# Altium schematic symbol library IEEE-802.15.4.SchLib: 39 symbols
Pins are listed as number, name and electrical type; pins without a type are passive.

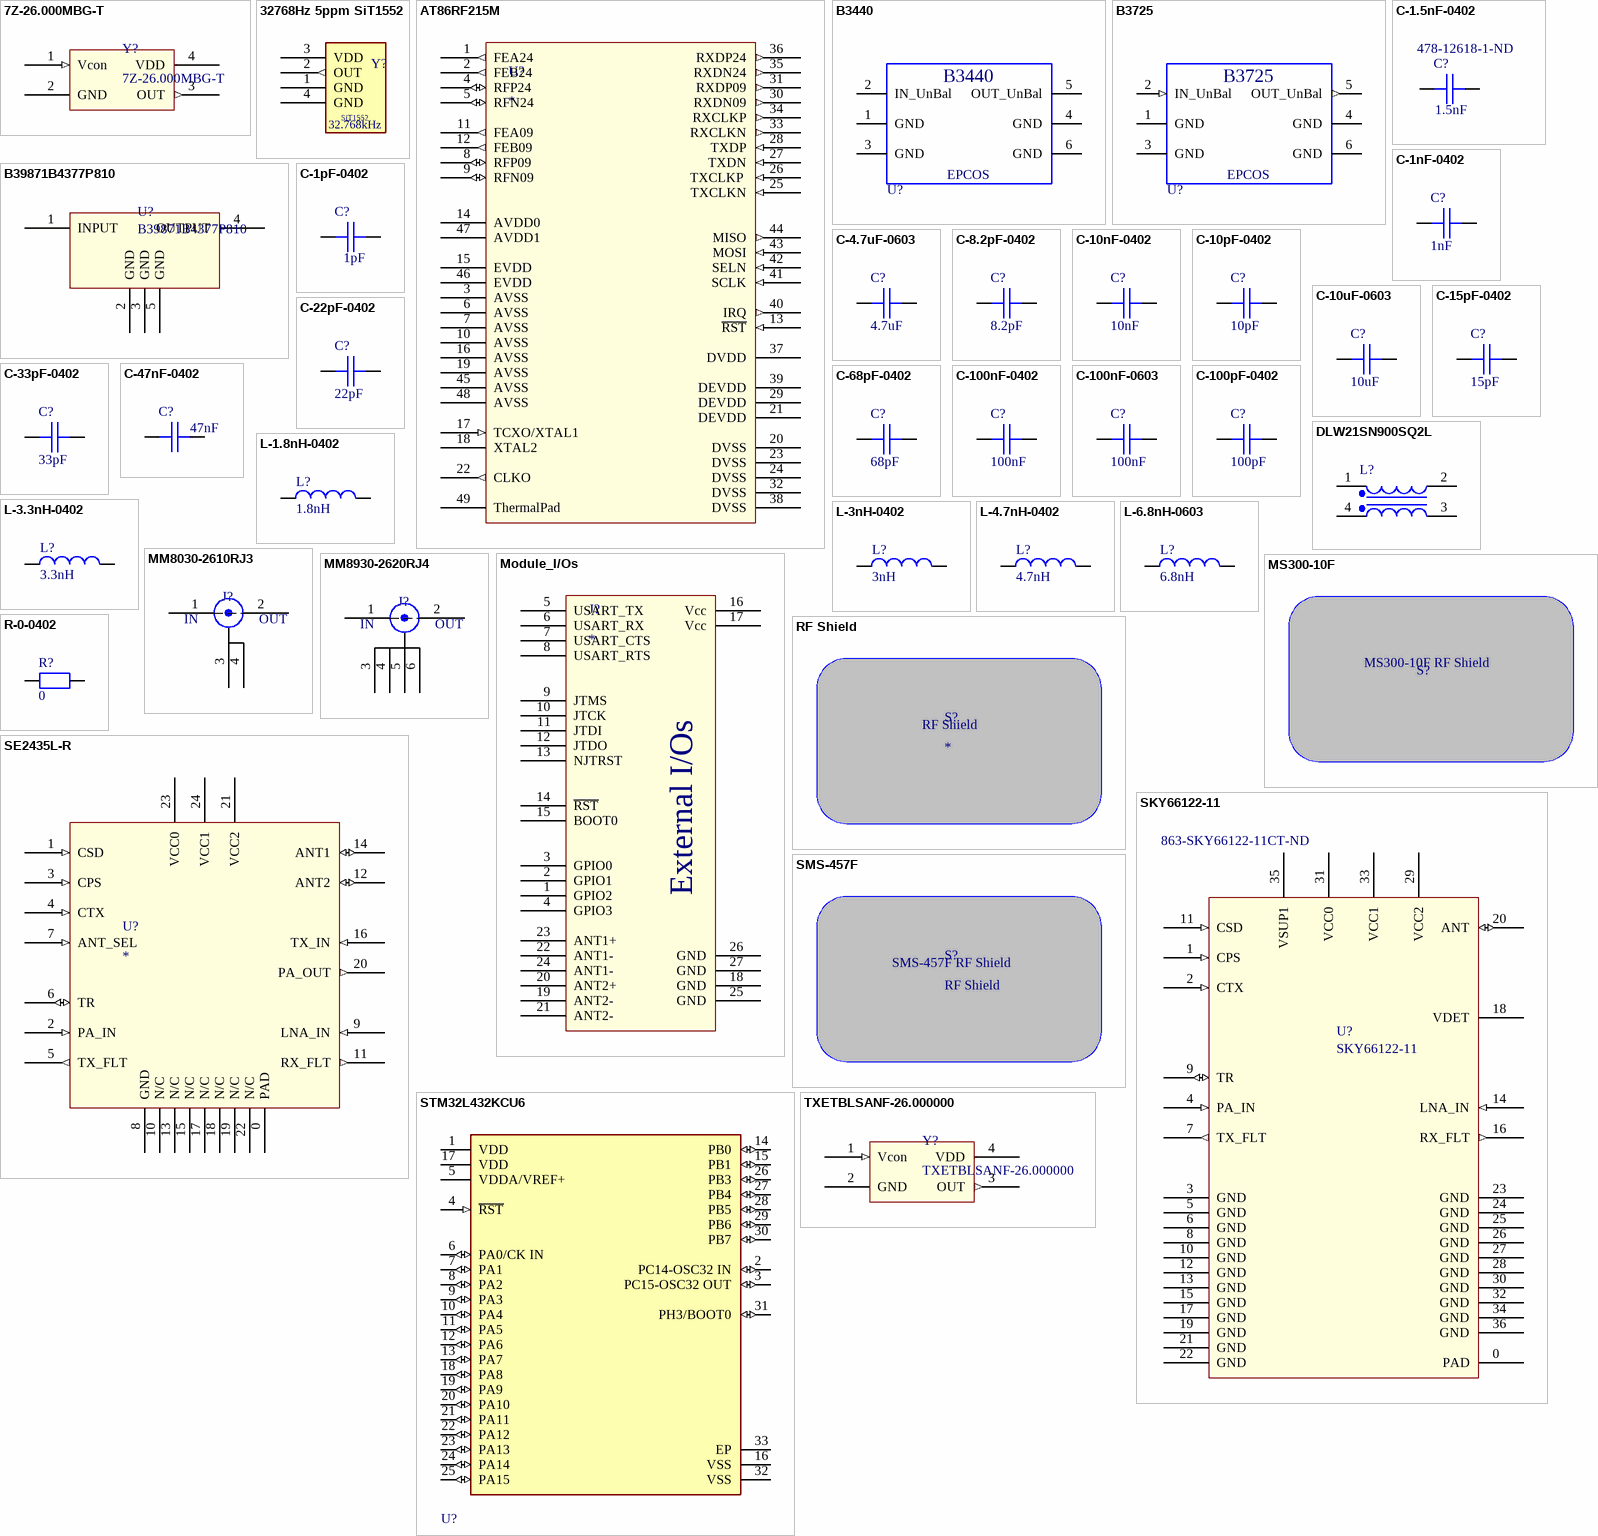
[diagram p0: symbols 7Z-26.000MBG-T to TXETBLSANF-26.000000]

## 7Z-26.000MBG-T
designator Y?
XTAL OSC TCXO 26.0000MHZ SNWV; Frequency Stability: 1ppm; Frequency: 26MHz; Max Supply Current: 2mA; RoHS: Yes; Mount: Surface Mount; Case/Package: SMD/SMT; Min Operating Temperature: -40°C; Max Operating Temperature: 85°C; Packaging: Tape and Reel; Length: 0.126inch; Height: 0.039inch; Width: 0.098inch; ComponentLink1URL: http://www.taitien.com/wp-content/uploads/2015/12/XO-0076_TX.pdf?src-supplier=Digi-Key; ComponentLink1Description: http://www.taitien.com/wp-content/uploads/2015/12/XO-0076_TX.pdf?src-supplier=Digi-Key; Supplier 1: Digi-Key; Supplier Part Number 1: 887-1620-1-ND
footprint TCXO
pins: 1 Vcon (in) "Vcon:VC-TCXO GND / NC:TCX", 2 GND (power), 3 OUT (out), 4 VDD (power)

## 32768Hz 5ppm SiT1552
designator Y?, comment 32k TCXO 5ppm SiT1552  (value not drawn)
Supplier 1: Digi-Key; Supplier Part Number 1: 1473-1241-1-ND
footprint 4-UFBGA (SiT1552 TCXO CSPBGA)
pins: 1 GND (power), 2 OUT (out), 3 VDD (power), 4 GND (power)
text: SiT1552; 32.768kHz

## AT86RF215M
designator U?
IC RF TXRX 802.15.4/ISM 48-VFQFN; Supplier 1: Digi-Key; Supplier Part Number 1: AT86RF215M-ZU-ND
footprint QFN50P700X700X90-49N-D
pins: 1 FEA24 (out) "RF frontend control; digital output for the 2.4GHz transceiver", 2 FEB24 (out) "RF frontend control; digital output for the 2.4GHz transceiver", 3 AVSS (power) "Analog ground (RF)", 4 RFP24 (io) "Differential RF input/output 2.4GHz (positive)", 5 RFN24 (io) "Differential RF input/output 2.4GHz (negative)", 6 AVSS (power) "Analog ground (RF)", 7 AVSS (power) "Analog ground (RF)", 8 RFP09 (io) "Differential RF input/output for sub-1GHz transceiver (positive)", 9 RFN09 (io) "Differential RF input/output for sub-1GHz transceiver (negative)", 10 AVSS (power) "Analog ground (RF)", 11 FEA09 (out) "RF frontend control; digital output for the sub-1GHz transceiver", 12 FEB09 (out) "RF frontend control; digital output for the sub-1GHz transceiver", 13 ~{RST} (in) "Reset input (active low)", 14 AVDD0 (power) "Internal regulated analog 1.8V supply output voltage (internally generated) for analog circuitry of the sub-1GHz transceiver", 15 EVDD (power) "External analog supply voltage (VDD); 3.0V typical", 16 AVSS (power) "Analog ground", 17 TCXO/XTAL1 (in) "TCXO or crystal oscillator (26MHz) input", 18 XTAL2 "Crystal oscillator", 19 AVSS (power) "Analog ground", 20 DVSS (power) "Digital ground", 21 DEVDD (power) "External digital supply voltage (VDD); 3.0V typical", 22 CLKO (out) "Clock output", 23 DVSS (power) "Digital ground", 24 DVSS (power) "Digital ground", 25 TXCLKN (in) "Differential TX I/Q clock interface input (negative)", 26 TXCLKP  (in) "Differential TX I/Q clock interface input (positive)", 27 TXDN (in) "Differential TX I/Q data interface input (negative)", 28 TXDP (in) "Differential TX I/Q data interface input (positive)", 29 DEVDD (power) "External digital supply voltage (VDD); 3.0V typical", 30 RXDN09 (out) "Differential RX I/Q data interface output sub-1GHz transceiver (negative)", 31 RXDP09 (out) "Differential RX I/Q data interface output sub-1GHz transceiver (positive)", 32 DVSS (power) "Digital ground", 33 RXCLKN (out) "Differential RX I/Q clock interface output (negative)", 34 RXCLKP (out) "Differential RX I/Q clock interface output (positive)", 35 RXDN24 (out) "Differential RX I/Q data interface output 2.4GHz transceiver (negative)", 36 RXDP24 (out) "Differential RX I/Q data interface output 2.4GHz transceiver (positive)", 37 DVDD (power) "Internal regulated supply output voltage (internally generated) for digital circuitry", 38 DVSS (power) "Digital ground", 39 DEVDD (power) "External digital supply voltage (VDD); 3.0V typical", 40 IRQ (out) "Interrupt output", 41 SCLK (in) "SPI interface clock input", 42 SELN (in) "SPI select input (active low)", 43 MOSI (in) "SPI data input", 44 MISO (out) "SPI data output", 45 AVSS (power) "Analog ground", 46 EVDD (power) "External analog supply voltage (VDD); 3.0V typical", 47 AVDD1 (power) "Internal regulated analog 1.8V supply output voltage (internally generated) for analog circuitry for the 2.4GHz transceiver", 48 AVSS (power) "Analog ground", 49 ThermalPad

## B3440
designator U?  (value not drawn)
SAW filter; PartNumber: BGA725L6; Manufacturer: Infineon; Gain (typ): 20 dB; F (typ): 0.65 dB; I (typ): 3.6 mA; Frequency (f): 1550 - 1615 MHz; Green: yes; P-1dB (in): -16; ComponentLink3URL: http://www.infineon.com/dgdl/TSLP-6-2-Package-Overview.pdf?folderId=db3a304331f858f40131ffb9669c4315&fileId=db3a3043338c8ac80133b1ca9c866256; ComponentLink3Description: Package Specification; ComponentLink1Description: Manufacturer URL; ComponentLink2URL: http://www.infineon.com/dgdl/BGA725L6_V2+0.pdf?folderId=db3a30431f848401011fcbf2ab4c04c4&fileId=db3a30433784a0400137ef9a4d341f23; DatasheetVersion: Rev. 2.0; Mounting Technology: Surface Mount; PackageDescription: 6-Pin Thin Small Leadless Package, 0.7 x 1.1 mm Body, 0.4 mm Pitch; ComponentLink1URL: http://www.infineon.com/; PackageReference: TSLP-6-2; ComponentLink2Description: Datasheet; Supplier 1: Mouser; Supplier Part Number 1: 871-B39871B3440U410
footprint EPCOS-DCC6C
pins: 1 GND (power) "DC supply", 2 IN_UnBal (power) "General ground", 3 GND (power) "DC supply", 4 GND (power) "DC supply", 5 OUT_UnBal (power) "LNA RF ground", 6 GND (power) "DC supply"
text: EPCOS

## B3725
designator U?  (value not drawn)
SAW filter; PartNumber: BGA725L6; Manufacturer: Infineon; Gain (typ): 20 dB; F (typ): 0.65 dB; I (typ): 3.6 mA; Frequency (f): 1550 - 1615 MHz; Green: yes; P-1dB (in): -16; ComponentLink3URL: http://www.infineon.com/dgdl/TSLP-6-2-Package-Overview.pdf?folderId=db3a304331f858f40131ffb9669c4315&fileId=db3a3043338c8ac80133b1ca9c866256; ComponentLink3Description: Package Specification; ComponentLink1Description: Manufacturer URL; ComponentLink2URL: http://www.infineon.com/dgdl/BGA725L6_V2+0.pdf?folderId=db3a30431f848401011fcbf2ab4c04c4&fileId=db3a30433784a0400137ef9a4d341f23; DatasheetVersion: Rev. 2.0; Mounting Technology: Surface Mount; PackageDescription: 6-Pin Thin Small Leadless Package, 0.7 x 1.1 mm Body, 0.4 mm Pitch; ComponentLink1URL: http://www.infineon.com/; PackageReference: TSLP-6-2; ComponentLink2Description: Datasheet; Supplier 1: Mouser; Supplier Part Number 1: 871-B39871B3725U410
footprint EPCOS-DCC6C
footprint EPCOS-DCC6C
pins: 1 GND (power) "DC supply", 2 IN_UnBal (in) "General ground", 3 GND (power) "DC supply", 4 GND (power) "DC supply", 5 OUT_UnBal (out) "LNA RF ground", 6 GND (power) "DC supply"
text: EPCOS

## B39871B4377P810
designator U?
Supplier 1: Mouser; Supplier Part Number 1: 871-B39871B4377P810
footprint B39871B4377P810
pins: 1 INPUT, 2 GND, 3 GND, 4 OUTPUT, 5 GND

## C-1.5nF-0402
designator C?, comment value 1.5nF  Supplier Part Number 1: 478-12618-1-ND  (hidden comment: C-1nF-0402)
Supplier 1: Digi-Key
simulation model CAP
footprint SM/C_0402
pins: 1, 2
1 alternate drawing of the same symbol

## C-1nF-0402
designator C?  value 1nF  (hidden comment: C-1nF-0402)
Voltage: 50V; Fabricant_Ref: GRM1555C1H102FA01D; Fabricant: Murata; Tolerance: 1%; Technologie: NPO; ESR: *; IRMS: *; Supplier 1: Digi-Key; Supplier Part Number 1: 490-6189-1-ND; Supplier 2: Mouser; Supplier Part Number 2: 81-GRM1555C1H102FA1D; Supplier 1b: DigiReel; Supplier Part Number 1b: 490-6189-6-ND
simulation model CAP
footprint SM/C_0402
pins: 1, 2
1 alternate drawing of the same symbol

## C-1pF-0402
designator C?  value 1pF  (hidden comment: C-1pF-0402)
Supplier 1: Digi-Key; Supplier Part Number 1: 1276-1595-1-ND
simulation model CAP
footprint SM/C_0402
pins: 1, 2
1 alternate drawing of the same symbol

## C-4.7uF-0603
designator C?  value 4.7uF  (hidden comment: C-4.7uF-0603)
Voltage: 6.3V; Fabricant_Ref: GRM188R60J475KE19D; Fabricant: Murata; Tolerance: 10%; Technologie: X5R; ESR: *; IRMS: *; Supplier Part Number 1b: 490-3297-6-ND; Supplier 1b: DigiReel; Supplier 1: Digi-Key; Supplier Part Number 1: 490-7203-1-ND
simulation model CAP
footprint SM/C_0603
pins: 1, 2
1 alternate drawing of the same symbol

## C-8.2pF-0402
designator C?  value 8.2pF  (hidden comment: C-8.2pF-0402)
Voltage: 6.3V; Fabricant_Ref: GRM188R60J475KE19D; Fabricant: Murata; Tolerance: 10%; Technologie: X5R; ESR: *; IRMS: *; Supplier Part Number 1b: 490-3297-6-ND; Supplier 1b: DigiReel; Supplier 1: Digi-Key; Supplier Part Number 1: 490-11240-1-ND
simulation model CAP
footprint SM/C_0402
pins: 1, 2
1 alternate drawing of the same symbol

## C-10nF-0402
designator C?  value 10nF  (hidden comment: C-10nF-0402)
Voltage: 50V; Fabricant_Ref: GRM155R71H103KA88J; Fabricant: Murata; Tolerance: 10%; Technologie: X7R; ESR: *; IRMS: *; Supplier 1: Digi-Key; Supplier Part Number 1: 490-4762-1-ND; Supplier 2: Mouser; Supplier Part Number 2: 81-GCM155R71H103KA5D
simulation model CAP
footprint SM/C_0402
pins: 1, 2
1 alternate drawing of the same symbol

## C-10pF-0402
designator C?  value 10pF  (hidden comment: C-10pF-0402)
Voltage: 6.3V; Fabricant_Ref: GRM188R60J475KE19D; Fabricant: Murata; Tolerance: 10%; Technologie: X5R; ESR: *; IRMS: *; Supplier Part Number 1b: 490-3297-6-ND; Supplier 1b: DigiReel; Supplier 1: Digi-Key; Supplier Part Number 1: 490-6186-1-ND
simulation model CAP
footprint SM/C_0402
pins: 1, 2
1 alternate drawing of the same symbol

## C-10uF-0603
designator C?  value 10uF  (hidden comment: C-10uF-0603)
Voltage: 6.3V; Fabricant_Ref: C1608X5R0J106M080AB; Fabricant: TDK; Tolerance: 20%; Technologie: X5R; ESR: *; IRMS: *; Supplier 1: Digi-Key; Supplier Part Number 1: 445-4112-1-ND; Supplier 2: Mouser; Supplier Part Number 2: 810-C1608X5R0J106M; Supplier 1b: DigiReel; Supplier Part Number 1b: 445-4112-6-ND
simulation model CAP
footprint SM/C_0603
pins: 1, 2
1 alternate drawing of the same symbol

## C-15pF-0402
designator C?  value 15pF  (hidden comment: C-15pF-0402)
Voltage: 6.3V; Fabricant_Ref: GRM188R60J475KE19D; Fabricant: Murata; Tolerance: 10%; Technologie: X5R; ESR: *; IRMS: *; Supplier Part Number 1b: 490-3297-6-ND; Supplier 1b: DigiReel; Supplier 1: Digi-Key; Supplier Part Number 1: 490-11191-1-ND
simulation model CAP
footprint SM/C_0402
pins: 1, 2
1 alternate drawing of the same symbol

## C-22pF-0402
designator C?  value 22pF  (hidden comment: C-22pF-0402)
Voltage: 50V; Fabricant_Ref: GRM1555C1H220FA01D; Fabricant: Murata; Tolerance: 1%; Technologie: NPO; ESR: *; IRMS: *; Supplier 1: Digi-Key; Supplier Part Number 1: 490-8589-1-ND; Supplier 2: Mouser; Supplier Part Number 2: 81-GRM1555C1H220FA1D
simulation model CAP
footprint SM/C_0402
pins: 1, 2
1 alternate drawing of the same symbol

## C-33pF-0402
designator C?  value 33pF  (hidden comment: C-33pF-0402)
Voltage: 50V; Fabricant_Ref: C1005C0G1H330J050BA; Fabricant: TDK; Tolerance: 5%; Technologie: NPO; ESR: *; IRMS: *; Supplier 1: Digi-Key; Supplier Part Number 1: 445-1241-1-ND; Supplier 1b: DigiReel; Supplier 2: Mouser; Supplier Part Number 1b: 445-1241-6-ND; Supplier Part Number 2: 810-C1005C0G1H330J
simulation model CAP
footprint SM/C_0402
pins: 1, 2
1 alternate drawing of the same symbol

## C-47nF-0402
designator C?  value 47nF  (hidden comment: C-47nF-0402)
Voltage: 25V; Fabricant_Ref: GCM155R71E473KA55D; Fabricant: Murata; Tolerance: 10%; Technologie: X7R; ESR: *; IRMS: *; Supplier 1: Digi-Key; Supplier Part Number 1: 490-4760-1-ND; Supplier 2: Mouser; Supplier Part Number 2: 81-GCM155R71E473KA5D; Supplier 1b: DigiReel; Supplier Part Number 1b: 490-4760-6-ND
simulation model CAP
footprint SM/C_0402
pins: 1, 2
1 alternate drawing of the same symbol

## C-68pF-0402
designator C?  value 68pF  (hidden comment: C-68pF-0402)
Voltage: 50V; Fabricant_Ref: C1005C0G1H330J050BA; Fabricant: TDK; Tolerance: 5%; Technologie: NPO; ESR: *; IRMS: *; Supplier 1b: DigiReel; Supplier Part Number 1b: 445-1241-6-ND; Supplier 1: Digi-Key; Supplier Part Number 1: 478-1080-1-ND
simulation model CAP
footprint SM/C_0402
pins: 1, 2
1 alternate drawing of the same symbol

## C-100nF-0402
designator C?  value 100nF  (hidden comment: C-100nF-0402)
Voltage: 25V; Fabricant_Ref: GRM155R71H103KA88J; Fabricant: Murata; Tolerance: 10%; Technologie: X7R; ESR: *; IRMS: *; Supplier 1: Digi-Key; Supplier Part Number 1: 1276-6720-1-ND; Supplier 2: Mouser; Supplier Part Number 2: 710-885012205037
simulation model CAP
footprint SM/C_0402
pins: 1, 2
1 alternate drawing of the same symbol

## C-100nF-0603
designator C?  value 100nF  (hidden comment: C-100nF-0603)
Voltage: 25V; Fabricant_Ref: C1608X7R1E104K080AA; Fabricant: TDK; Tolerance: 10%; Technologie: X7R; ESR: *; IRMS: *; Supplier 1: Digi-Key; Supplier Part Number 1: 445-1316-1-ND; Supplier 1b: DigiReel; Supplier 2: Mouser; Supplier Part Number 1b: 445-1316-6-ND; Supplier Part Number 2: 810-C1608X7R1E104K
simulation model CAP
footprint SM/C_0603
pins: 1, 2
1 alternate drawing of the same symbol

## C-100pF-0402
designator C?  value 100pF  (hidden comment: C-100pF-0402)
Voltage: 50V; Fabricant_Ref: GRM1555C1H101FA01J; Fabricant: Murata; Tolerance: 1%; Technologie: NPO; ESR: *; IRMS: *; Supplier 1: Digi-Key; Supplier Part Number 1: 490-7753-1-ND; Supplier 2: Mouser; Supplier Part Number 2: 81-GRM1555C1H101FA1J
simulation model CAP
footprint SM/C_0402
pins: 1, 2
1 alternate drawing of the same symbol

## DLW21SN900SQ2L
designator L?
Chip Common Mode Choke Coil, 90 Ohm, 330 mA, -40 to 85 degC, 4-Pin SMD, RoHS, Tape and Reel; Manufacturer: Murata; DC Resistance-Max: 0.41O; Impedance: 90O; Rated Voltage: 50V; Rated Current: 280mA; Manufacturer URL: http://www.murata.com/; Case Size/Dimension: 0805; Datasheet URL: http://www.murata.com/zh-cn/products/productdata/8796757917726/EFLC0003.pdf?1441769419000; Datasheet Version: Aug-14; Supplier 1: Digi-Key; Supplier Part Number 1: 490-5137-1-ND
footprint MURA-DLW21SN900SQ2L-4_V (SMD, 4-Leads, Body 2.2x1.4mm)
pins: 1, 2, 3, 4

## L-1.8nH-0402
designator L?  value 1.8nH  (hidden comment: L-1.8nH-0402)
I_DC: 300mA; Tolerance: 0.3nH; Fabricant: Murata; Fabricant_Ref: LQG15HN3N3S02D; Supplier 1b: DigiReel; Supplier Part Number 1b: 490-6561-6-ND; Supplier 1: Digi-Key; Supplier Part Number 1: 490-1076-1-ND
simulation model Model Name (Model Description)
footprint SM/L_0402
pins: 1, 2

## L-3.3nH-0402
designator L?  value 3.3nH  (hidden comment: L-3.3nH-0402)
I_DC: 300mA; Tolerance: 0.3nH; Fabricant: Murata; Fabricant_Ref: LQG15HN3N3S02D; Supplier 1: Digi-Key; Supplier Part Number 1: 490-6561-1-ND; Supplier 1b: DigiReel; Supplier 2: Mouser; Supplier Part Number 1b: 490-6561-6-ND; Supplier Part Number 2: 81-LQG15HN3N0S02D
simulation model Model Name (Model Description)
footprint SM/L_0402
pins: 1, 2

## L-3nH-0402
designator L?  value 3nH  (hidden comment: L-3nH-0402)
I_DC: 300mA; Tolerance: 0.3nH; Fabricant: Murata; Fabricant_Ref: LQG15HN3N3S02D; Supplier 1b: DigiReel; Supplier Part Number 1b: 490-6561-6-ND; Supplier 1: Digi-Key; Supplier Part Number 1: 490-15162-1-ND
simulation model Model Name (Model Description)
footprint SM/L_0402
pins: 1, 2

## L-4.7nH-0402
designator L?  value 4.7nH  (hidden comment: L-4.7nH-0402)
I_DC: 300mA; Tolerance: 0.3nH; Fabricant: Murata; Fabricant_Ref: LQG15HN3N3S02D; Supplier 1b: DigiReel; Supplier Part Number 1b: 490-6561-6-ND; Supplier 1: Digi-Key; Supplier Part Number 1: 490-1080-1-ND; Supplier 2: Mouser; Supplier Part Number 2: 81-LQG15HN4N7S02D
simulation model Model Name (Model Description)
footprint SM/L_0402
pins: 1, 2

## L-6.8nH-0603
designator L?  value 6.8nH  (hidden comment: L-6.8nH-0603)
I_DC: 300mA; Tolerance: 5%; Fabricant: Murata; Fabricant_Ref: LQG18HN6N8J00D; Supplier 1: Digi-Key; Supplier Part Number 1: 490-1108-1-ND; Supplier 1b: DigiReel; Supplier 2: Mouser; Supplier Part Number 1b: 490-1108-6-ND; Supplier Part Number 2: 81-LQG18HN6N8J00D
simulation model Model Name (Model Description)
footprint SM/L_0603 (1608)
pins: 1, 2

## MM8030-2610RJ3
designator J?, comment MM8930-2620RJ4  (value not drawn)
SWG Connecteur Socle, prise femelle 50Ohms; RoHS: No; Supplier 1: Digi-Key; Supplier Part Number 1: 490-5907-1-ND
footprint MM8030-2610RJ3
pins: 1 IN, 2 IN, 3 GND, 4 GND
text: OUT

## MM8930-2620RJ4
designator J?  (value not drawn)
Conn Microwave Coaxial SWH Receptacle 0GHz to 6GHz ST SMD T/R; Manufacturer 1: Murata; Supplier 1: Mouser; Manufacturer Part Number 1: MM8930-2620RJ4; Stock 1: 5819; Pricing 1: 1=0,34000, 10=0,29000, 100=0,22000, 500=0,17000, 1000=0,17000, 4000=0,14000 (USD); RoHS: No; Supplier Part Number 1: 81-MM8930-2620RJ4
footprint MM8930-2620RJ4
pins: 1 IN, 2 IN, 3 GND, 4 GND, 5 GND, 6 GND
text: OUT

## Module_I/Os
designator J?
footprint Module_RF_EXT_IO_4_3 (Footprint pour le module RF 4.3)
pins: 1 GPIO2, 2 GPIO1, 3 GPIO0, 4 GPIO3, 5 USART_TX, 6 USART_RX, 7 USART_CTS, 8 USART_RTS, 9 JTMS, 10 JTCK, 11 JTDI, 12 JTDO, 13 NJTRST, 14 ~{RST}, 15 BOOT0, 16 Vcc (power), 17 Vcc (power), 18 GND (power), 19 ANT2-, 20 ANT2+, 21 ANT2-, 22 ANT1-, 23 ANT1+, 24 ANT1-, 25 GND (power), 26 GND (power), 27 GND (power)
text: External I/Os

## MS300-10F
designator S?
footprint MS300_RF_Shield
text: MS300-10F RF Shield

## R-0-0402
designator R?  value 0  (hidden comment: R-0-0402)
Fabricant_Ref: ERJ-2GE0R00X; Fabricant: Panasonic; Puissance: 100 mW; Tolerance: 1%; Tension: 50V; Supplier 1: Digi-Key; Supplier Part Number 1: P0.0JCT-ND; Supplier 1b: DigiReel; Supplier 2: Mouser; Supplier Part Number 1b: P0.0JDKR-ND; Supplier Part Number 2: 667-ERJ-2GE0R00X
signal-integrity model Res
footprint SM/R_0402
pins: 1, 2

## RF Shield
designator S?
footprint RF Shield

## SE2435L-R
designator U?
IC FRONT END 930MHZ ISM 24QFN; Manufacturer 1: Skyworks Solutions; Manufacturer Part Number 1: SE2435L-R; Operating Supply Current: 50mA; Operating Supply Voltage: 3V; Supplier 1: Digi-Key; Stock 1: 2835; Pricing 1: 1=2,89000, 10=2,58000, 25=2,32200, 100=2,11560, 250=1,90920, 500=1,71312, 1000=1,44480 (USD); RoHS: Yes; Case/Package: QFN; Weight: 0.032741oz; Min Operating Temperature: -40°C; Max Operating Temperature: 85°C; Frequency: 930MHz; Packaging: Tape and Reel; Package Quantity: 1; ComponentLink1URL: https://www.verical.com/server-webapp/html/getDatasheet?partID=660463&src-supplier=Verical; ComponentLink1Description: https://www.verical.com/server-webapp/html/getDatasheet?partID=660463&src-supplier=Verical; ComponentLink2URL: http://www.skyworksinc.com/uploads/documents/SE2435L_202412I.pdf?src-supplier=Digi-Key; ComponentLink2Description: http://www.skyworksinc.com/uploads/documents/SE2435L_202412I.pdf?src-supplier=Digi-Key; ComponentLink3URL: http://www.skyworksinc.com/uploads/documents/SE2435L_DS.pdf?src-supplier=Mouser; ComponentLink3Description: http://www.skyworksinc.com/uploads/documents/SE2435L_DS.pdf?src-supplier=Mouser; Supplier Part Number 1: 863-1349-1-ND; ComponentLink4Description: datasheet; ComponentLink4URL: https://www.skyworksinc.com/-/media/SkyWorks/Documents/Products/601-700/SE2435L_202412K.pdf
footprint SE2435L
pins: 0 PAD (power) "Ground", 1 CSD (in) "Shutdown control input", 2 PA_IN (in) "PA input (from Tx filter)", 3 CPS (in) "Rx path select control input", 4 CTX (in) "Transmit enable control input", 5 TX_FLT (out) "Transmit signal (to Tx filter)", 6 TR (io) "Bi-directional RF signal to/from transceiver", 7 ANT_SEL (in) "Antenna select control input", 8 GND (power) "Ground", 9 LNA_IN (in) "LNA input (from Rx filter)", 10 N/C, 11 RX_FLT (out) "Rx signal from antennas (to Rx filter)", 12 ANT2 (io) "Antenna port 2", 13 N/C, 14 ANT1 (io) "Antenna port 1", 15 N/C, 16 TX_IN (in) "Tx signal to antennas (from OMN)", 17 N/C, 18 N/C, 19 N/C, 20 PA_OUT (out) "PA output (to Z optimum ( Z optimum = 5 Ω for +30 dBm or 8 Ω for +27 dBm POUT))", 21 VCC2 (power) "Positive power supply", 22 N/C, 23 VCC0 (power) "Positive power supply", 24 VCC1 (power) "Positive power supply"

## SKY66122-11
designator U?  Supplier Part Number 1: 863-SKY66122-11CT-ND
Supplier 1: Digi-Key
footprint SKY66122-11
pins: 0 PAD (power) "Ground", 1 CPS (in) "Rx path select control input", 2 CTX (in) "Transmit enable control input", 3 GND (power) "Ground", 4 PA_IN (in) "PA input (from Tx filter)", 5 GND (power) "Ground", 6 GND (power) "Ground", 7 TX_FLT (out) "Transmit signal (to Tx filter)", 8 GND (power) "Ground", 9 TR (io) "Bi-directional RF signal to/from transceiver", 10 GND, 11 CSD (in) "Shutdown control input", 12 GND, 13 GND, 14 LNA_IN (in) "LNA input (from Rx filter)", 15 GND, 16 RX_FLT (out) "Rx signal from antennas (to Rx filter)", 17 GND, 18 VDET (power) "Ground", 19 GND, 20 ANT (io) "Antenna port 1", 21 GND, 22 GND (power) "Ground", 23 GND (power) "Ground", 24 GND (power) "Ground", 25 GND (power) "Ground", 26 GND (power) "Ground", 27 GND (power) "Ground", 28 GND (power) "Ground", 29 VCC2 (power) "Positive power supply", 30 GND (power) "Ground", 31 VCC0 (power) "Positive power supply", 32 GND (power) "Ground", 33 VCC1 (power) "Positive power supply", 34 GND (power) "Ground", 35 VSUP1 (power) "Ground", 36 GND (power) "Ground"

## SMS-457F
designator S?, comment RF Shield
Surface Mount Shield Frame, Rect; Manufacturer 1: Leader Tech FerriShield; Manufacturer Part Number 1: SMS-457F; Supplier 1: Digi-Key; Stock 1: 4236; Pricing 1: 1=1,99000, 10=1,78300, 25=1,68240, 100=1,43320 (USD); RoHS: No; Mount: Surface Mount; Packaging: Cut Tape; Length: 27.18mm; Width: 33.12mm; Depth: 5.99mm; REACH SVHC: No SVHC; ComponentLink1URL: https://leadertechinc.com/wp-content/uploads/2016/03/SMS-457-REV-A.pdf?src-supplier=Digi-Key; ComponentLink1Description: https://leadertechinc.com/wp-content/uploads/2016/03/SMS-457-REV-A.pdf?src-supplier=Digi-Key; ComponentLink2URL: http://www.farnell.com/datasheets/2118444.pdf?src-supplier=Element14; ComponentLink2Description: http://www.farnell.com/datasheets/2118444.pdf?src-supplier=Element14; Supplier Part Number 1: 1798-1227-1-ND
footprint SMS457F
text: SMS-457F RF Shield

## STM32L432KCU6
designator U?
IC MCU 32BIT 256KB FLASH 32QFPN; Manufacturer Part Number: STM32L432KCU6; Manufacturer: STMicroelectronics; Max Supply Voltage: 3.6V; Number Of Timers/Counters: 11; Ram Size: 64KBytes; Number Of Usb Channels: 1; Memory Size: 256KBytes; Number Of Uart Channels: 3; Frequency: 80MHz; Number Of I2C Channels: 2; Core Architecture: ARM Cortex-M4; Number Of I/Os: 26; Min Supply Voltage: 1.62V; Data Bus Width: 32bits; Max Junction Temp: +105°C; Interface: I2C,SPI,UART,USART,CAN,USB,LIN,IrDA,Other; Ambient Temperature Range High: +85°C; Category: IC; Device Class L2: Embedded Processors and Controllers; Ambient Temperature Range Low: -40°C; Number Of Adc Channels: 11; ComponentLink2Description: Datasheet; Number Of A/D Converters: 1; Device Class L1: Integrated Circuits (ICs); Memory Type: FLASH; Height: 0.6mm; Temperature: -40°C to +105°C; Automotive: No; Temperature Range Low: -40°C; Digikey Description: IC MCU 32BIT 256KB FLASH 32QFPN; Temperature Range High: +105°C; Octopart: https://octopart.com/stm32l432kcu6-stmicroelectronics-71093510; Device Class L3: Microcontrollers; Number Of Pwm Channels: 1; Number Of Spi Channels: 2; Lead Free: Yes; Number Of Cores: 1; Package: UFQFPN32-A0B8; ComponentLink2URL: https://www.st.com/content/ccc/resource/technical/document/datasheet/24/01/9f/59/f0/83/47/fc/DM00257205.pdf/files/DM00257205.pdf/jcr:content/translations/en.DM00257205.pdf; RoHS: TRUE; Supplier 1: Digi-Key; Supplier Part Number 1: 497-16578-ND
footprint 32-UFQFPN (5x5)
pins: 1 VDD (power), 2 PC14-OSC32 IN (io), 3 PC15-OSC32 OUT (io), 4 ~{RST} (in), 5 VDDA/VREF+ (power), 6 PA0/CK IN (io), 7 PA1 (io), 8 PA2 (io), 9 PA3 (io), 10 PA4 (io), 11 PA5 (io), 12 PA6 (io), 13 PA7 (io), 14 PB0 (io), 15 PB1 (io), 16 VSS (power), 17 VDD (power), 18 PA8 (io), 19 PA9 (io), 20 PA10 (io), 21 PA11 (io), 22 PA12 (io), 23 PA13 (io), 24 PA14 (io), 25 PA15 (io), 26 PB3 (io), 27 PB4 (io), 28 PB5 (io), 29 PB6 (io), 30 PB7 (io), 31 PH3/BOOT0 (io), 32 VSS (power), 33 EP (power)

## TXETBLSANF-26.000000
designator Y?
OSC TCXO 26.0000MHZ CLP SW SMD; Manufacturer 1: Taitien Electronics; Frequency Stability: 1ppm; Frequency: 26MHz; Max Supply Current: 2mA; Supplier 1: Digi-Key; Manufacturer Part Number 1: TXETBLSANF-26.000000; Stock 1: 6070; Pricing 1: 1=2,46000, 10=2,40200, 50=2,28800, 100=2,00200 (USD); RoHS: Yes; Mount: Surface Mount; Case/Package: SMD/SMT; Min Operating Temperature: -40°C; Max Operating Temperature: 85°C; Packaging: Tape and Reel; Length: 0.126inch; Height: 0.039inch; Width: 0.098inch; ComponentLink1URL: http://www.taitien.com/wp-content/uploads/2015/12/XO-0076_TX.pdf?src-supplier=Digi-Key; ComponentLink1Description: http://www.taitien.com/wp-content/uploads/2015/12/XO-0076_TX.pdf?src-supplier=Digi-Key; Supplier Part Number 1: 1664-1268-1-ND
footprint TCXO
pins: 1 Vcon (in) "Vcon:VC-TCXO GND / NC:TCX", 2 GND (power), 3 OUT (out), 4 VDD (power)